# EAGLE library part NDC7001C (library transistor-fet)
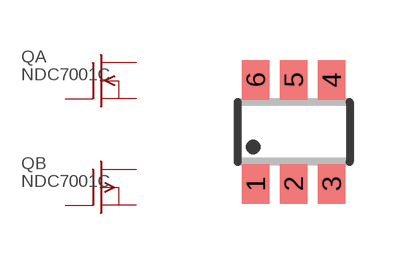
[diagram p2: symbol with the pads of SSOT6; footprint SSOT6]

Designator prefix Q; gates A=IGFET-DN-GDS B=IGFET-DP-GDS

## NDC7001C  [SSOT6]
1  A:G  pas
2  B:S  pas
3  B:G  pas
4  B:D  pas
5  A:S  pas
6  A:D  pas

## Footprint SSOT6 (pad centres in mm)
SuperSOT-6 Source: Fairchild Semiconductor International ssot6_dim.pdf September 1998, Rev. A
smd 0.69 x 0.99: 1 -0.95,-1.3; 2 0,-1.3; 3 0.95,-1.3; 4 0.95,1.3; 5 0,1.3; 6 -0.95,1.3